# EAGLE library part XR-2208 (library exar)
Operational MULTIPLIER
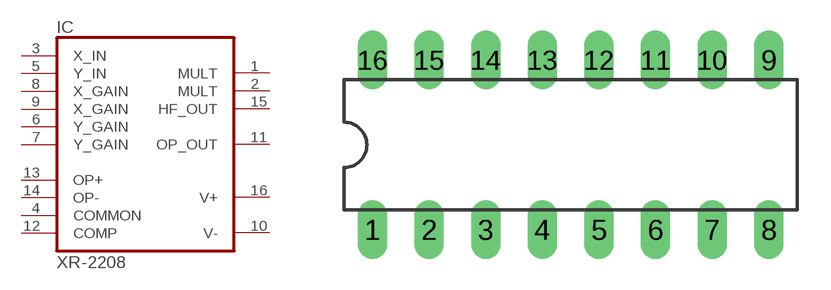
[diagram p3: symbol with the pads of DIL16; footprint DIL16]

Designator prefix IC

## XR-2208  [DIL16]
1  MULT  out
2  MULT  out
3  X_IN  in
4  COMMON  in
5  Y_IN  in
6  Y_GAIN  in
7  Y_GAIN  in
8  X_GAIN  in
9  X_GAIN  in
10  V-  pwr
11  OP_OUT  out
12  COMP  in
13  OP+  in
14  OP-  in
15  HF_OUT  out
16  V+  pwr

## Footprint DIL16 (pad centres in mm)
Dual In Line Package
drill 0.813 long: 1 -8.89,-3.81; 2 -6.35,-3.81; 3 -3.81,-3.81; 4 -1.27,-3.81; 5 1.27,-3.81; 6 3.81,-3.81; 7 6.35,-3.81; 8 8.89,-3.81; 9 8.89,3.81; 10 6.35,3.81; 11 3.81,3.81; 12 1.27,3.81; 13 -1.27,3.81; 14 -3.81,3.81; 15 -6.35,3.81; 16 -8.89,3.81